# EAGLE library part XB64AC (library connectors)
Backplane connector 64 pins Used planes A+C
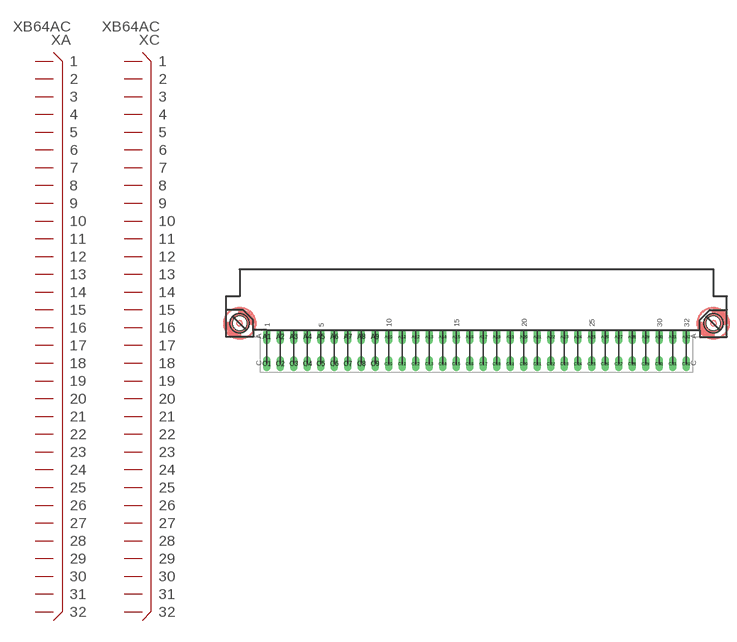
[diagram p0: symbol with the pads of XB64AC; footprint XB64AC]

Designator prefix X; gates A=XB32 C=XB32

## XB64AC  [XB64AC]
A1  A:1
A2  A:2
A3  A:3
A4  A:4
A5  A:5
A6  A:6
A7  A:7
A8  A:8
A9  A:9
A10  A:10
A11  A:11
A12  A:12
A13  A:13
A14  A:14
A15  A:15
A16  A:16
A17  A:17
A18  A:18
A19  A:19
A20  A:20
A21  A:21
A22  A:22
A23  A:23
A24  A:24
A25  A:25
A26  A:26
A27  A:27
A28  A:28
A29  A:29
A30  A:30
A31  A:31
A32  A:32
C1  C:1
C2  C:2
C3  C:3
C4  C:4
C5  C:5
C6  C:6
C7  C:7
C8  C:8
C9  C:9
C10  C:10
C11  C:11
C12  C:12
C13  C:13
C14  C:14
C15  C:15
C16  C:16
C17  C:17
C18  C:18
C19  C:19
C20  C:20
C21  C:21
C22  C:22
C23  C:23
C24  C:24
C25  C:25
C26  C:26
C27  C:27
C28  C:28
C29  C:29
C30  C:30
C31  C:31
C32  C:32

## Footprint XB64AC (pad centres in mm)
Backplane connector 64 pins Used planes A+C
drill 0.813 pad 1.397 long: A1 0,5.08; A2 2.54,5.08; A3 5.08,5.08; A4 7.62,5.08; A5 10.16,5.08; A6 12.7,5.08; A7 15.24,5.08; A8 17.78,5.08; A9 20.32,5.08; A10 22.86,5.08; A11 25.4,5.08; A12 27.94,5.08; A13 30.48,5.08; A14 33.02,5.08; A15 35.56,5.08; A16 38.1,5.08; A17 40.64,5.08; A18 43.18,5.08; A19 45.72,5.08; A20 48.26,5.08; A21 50.8,5.08; A22 53.34,5.08; A23 55.88,5.08; A24 58.42,5.08; A25 60.96,5.08; A26 63.5,5.08; A27 66.04,5.08; A28 68.58,5.08; A29 71.12,5.08; A30 73.66,5.08; A31 76.2,5.08; A32 78.74,5.08; C1 0,0; C2 2.54,0; C3 5.08,0; C4 7.62,0; C5 10.16,0; C6 12.7,0; C7 15.24,0; C8 17.78,0; C9 20.32,0; C10 22.86,0; C11 25.4,0; C12 27.94,0; C13 30.48,0; C14 33.02,0; C15 35.56,0; C16 38.1,0; C17 40.64,0; C18 43.18,0; C19 45.72,0; C20 48.26,0; C21 50.8,0; C22 53.34,0; C23 55.88,0; C24 58.42,0; C25 60.96,0; C26 63.5,0; C27 66.04,0; C28 68.58,0; C29 71.12,0; C30 73.66,0; C31 76.2,0; C32 78.74,0
hole 2.692 at -5.08,7.62
hole 2.692 at 83.82,7.62